# EAGLE library part CEM3340 (library halcyonmod_CEM)
Curtis CEM3340 Voltage Controlled Oscillator Source : http://curtiselectromusic.com/uploads/CEM_3340-3345_Long.pdf
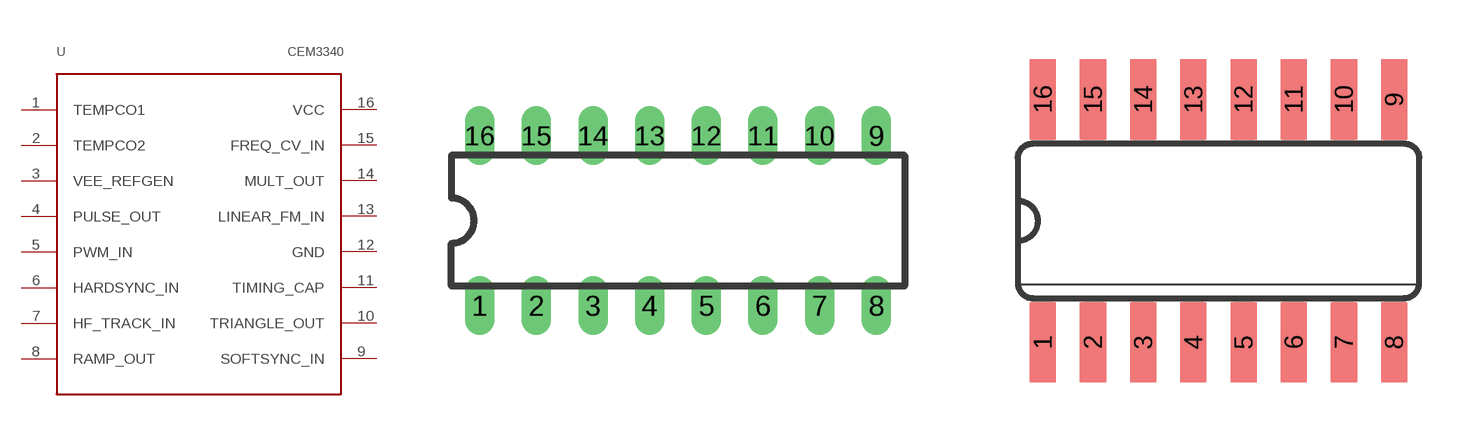
[diagram p0: symbol with the pads of DIL16; footprints DIL16, SO16]

Designator prefix -

## CEM3340  [DIL16]
1  TEMPCO1
2  TEMPCO2
3  VEE_REFGEN
4  PULSE_OUT
5  PWM_IN
6  HARDSYNC_IN
7  HF_TRACK_IN
8  RAMP_OUT
9  SOFTSYNC_IN
10  TRIANGLE_OUT
11  TIMING_CAP
12  GND
13  LINEAR_FM_IN
14  MULT_OUT
15  FREQ_CV_IN
16  VCC

## CEM3340-SOP  [SO16]
Pads as for DIL16

## CEM3340-COMBO  [COMBO16]
1  TEMPCO1
1A  TEMPCO1
2  TEMPCO2
2A  TEMPCO2
3  VEE_REFGEN
3A  VEE_REFGEN
4  PULSE_OUT
4A  PULSE_OUT
5  PWM_IN
5A  PWM_IN
6  HARDSYNC_IN
6A  HARDSYNC_IN
7  HF_TRACK_IN
7A  HF_TRACK_IN
8  RAMP_OUT
8A  RAMP_OUT
9  SOFTSYNC_IN
9A  SOFTSYNC_IN
10  TRIANGLE_OUT
10A  TRIANGLE_OUT
11  TIMING_CAP
11A  TIMING_CAP
12  GND
12A  GND
13  LINEAR_FM_IN
13A  LINEAR_FM_IN
14  MULT_OUT
14A  MULT_OUT
15  FREQ_CV_IN
15A  FREQ_CV_IN
16  VCC
16A  VCC

## Footprint DIL16 (pad centres in mm)
Dual In Line Package
drill 0.813 long: 1 -8.89,-3.81; 2 -6.35,-3.81; 3 -3.81,-3.81; 4 -1.27,-3.81; 5 1.27,-3.81; 6 3.81,-3.81; 7 6.35,-3.81; 8 8.89,-3.81; 9 8.89,3.81; 10 6.35,3.81; 11 3.81,3.81; 12 1.27,3.81; 13 -1.27,3.81; 14 -3.81,3.81; 15 -6.35,3.81; 16 -8.89,3.81

## Footprint SO16 (pad centres in mm)
Small Outline package 150 mil
smd 0.66 x 2.032: 1 -4.445,-3.073; 2 -3.175,-3.073; 3 -1.905,-3.073; 4 -0.635,-3.073; 5 0.635,-3.073; 6 1.905,-3.073; 7 3.175,-3.073; 8 4.445,-3.073; 9 4.445,3.073; 10 3.175,3.073; 11 1.905,3.073; 12 0.635,3.073; 13 -0.635,3.073; 14 -1.905,3.073; 15 -3.175,3.073; 16 -4.445,3.073

## Footprint COMBO16 (pad centres in mm)
drill 0.813 octagon: 1 -8.89,-3.81; 2 -6.35,-3.81; 3 -3.81,-3.81; 4 -1.27,-3.81; 5 1.27,-3.81; 6 3.81,-3.81; 7 6.35,-3.81; 8 8.89,-3.81; 9 8.89,3.81; 10 6.35,3.81; 11 3.81,3.81; 12 1.27,3.81; 13 -1.27,3.81; 14 -3.81,3.81; 15 -6.35,3.81; 16 -8.89,3.81
smd 0.66 x 2.032: 1A -4.445,0.991; 2A -3.175,0.991; 3A -1.905,0.991; 4A -0.635,0.991; 5A 0.635,0.991; 6A 1.905,0.991; 7A 3.175,0.991; 8A 4.445,0.991; 9A 4.445,7.137; 10A 3.175,7.137; 11A 1.905,7.137; 12A 0.635,7.137; 13A -0.635,7.137; 14A -1.905,7.137; 15A -3.175,7.137; 16A -4.445,7.137